# EAGLE library part QFP80-315-5377-80 (library Sega GG ICv7)
Seag Game Gear Asic's Version V0 315-5377
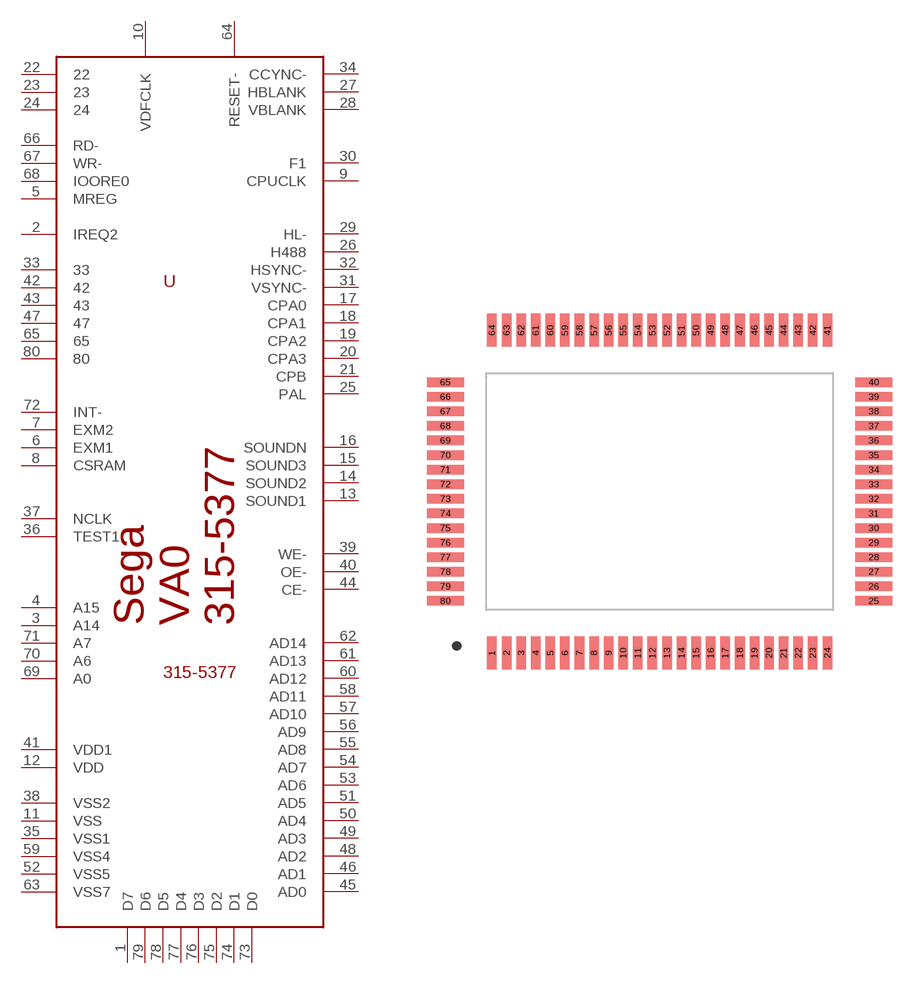
[diagram p0: symbol with the pads of QFP-80-315-5377; footprint QFP-80-315-5377]

Designator prefix -

## QFP80-315-5377-80315-5377  [QFP-80-315-5377]
1  D7
2  IREQ2
3  A14
4  A15
5  MREG
6  EXM1
7  EXM2
8  CSRAM
9  CPUCLK
10  VDFCLK
11  VSS  pwr
12  VDD  pwr
13  SOUND1
14  SOUND2
15  SOUND3
16  SOUNDN
17  CPA0
18  CPA1
19  CPA2
20  CPA3
21  CPB
22  22  nc
23  23  nc
24  24  nc
25  PAL
26  H488
27  HBLANK  out
28  VBLANK  out
29  HL-
30  F1
31  VSYNC-
32  HSYNC-
33  33  nc
34  CCYNC-
35  VSS1  pwr
36  TEST1
37  NCLK
38  VSS2
39  WE-
40  OE-
41  VDD1  pwr
42  42  nc
43  43  nc
44  CE-
45  AD0
46  AD1
47  47  nc
48  AD2
49  AD3
50  AD4
51  AD5
52  VSS5  pwr
53  AD6
54  AD7
55  AD8
56  AD9
57  AD10
58  AD11
59  VSS4  pwr
60  AD12
61  AD13
62  AD14
63  VSS7
64  RESET-  in
65  65  nc
66  RD-
67  WR-
68  IOORE0
69  A0
70  A6
71  A7
72  INT-
73  D0
74  D1
75  D2
76  D3
77  D4
78  D5
79  D6
80  80  nc

## Footprint QFP-80-315-5377 (pad centres in mm)
Sega 315-5377 80-QFP Sega Game Gear ASIC Version V0 80-pin QFP
smd 0.522 x 1.812: 1 -9.2,-8.85; 2 -8.4,-8.85; 3 -7.6,-8.85; 4 -6.8,-8.85; 5 -6,-8.85; 6 -5.2,-8.85; 7 -4.4,-8.85; 8 -3.6,-8.85; 9 -2.8,-8.85; 10 -2,-8.85; 11 -1.2,-8.85; 12 -0.4,-8.85; 13 0.4,-8.85; 14 1.2,-8.85; 15 2,-8.85; 16 2.8,-8.85; 17 3.6,-8.85; 18 4.4,-8.85; 19 5.2,-8.85; 20 6,-8.85; 21 6.8,-8.85; 22 7.6,-8.85; 23 8.4,-8.85; 24 9.2,-8.85; 41 9.2,8.85; 42 8.4,8.85; 43 7.6,8.85; 44 6.8,8.85; 45 6,8.85; 46 5.2,8.85; 47 4.4,8.85; 48 3.6,8.85; 49 2.8,8.85; 50 2,8.85; 51 1.2,8.85; 52 0.4,8.85; 53 -0.4,8.85; 54 -1.2,8.85; 55 -2,8.85; 56 -2.8,8.85; 57 -3.6,8.85; 58 -4.4,8.85; 59 -5.2,8.85; 60 -6,8.85; 61 -6.8,8.85; 62 -7.6,8.85; 63 -8.4,8.85; 64 -9.2,8.85
smd 2.012 x 0.522: 25 11.75,-6; 26 11.75,-5.2; 27 11.75,-4.4; 28 11.75,-3.6; 29 11.75,-2.8; 30 11.75,-2; 31 11.75,-1.2; 32 11.75,-0.4; 33 11.75,0.4; 34 11.75,1.2; 35 11.75,2; 36 11.75,2.8; 37 11.75,3.6; 38 11.75,4.4; 39 11.75,5.2; 40 11.75,6; 65 -11.75,6; 66 -11.75,5.2; 67 -11.75,4.4; 68 -11.75,3.6; 69 -11.75,2.8; 70 -11.75,2; 71 -11.75,1.2; 72 -11.75,0.4; 73 -11.75,-0.4; 74 -11.75,-1.2; 75 -11.75,-2; 76 -11.75,-2.8; 77 -11.75,-3.6; 78 -11.75,-4.4; 79 -11.75,-5.2; 80 -11.75,-6